# EAGLE library part GHI-CONNECTORS_HDMI-TYPE-D-10118241 (library BeagleBone_Black_Wireless)
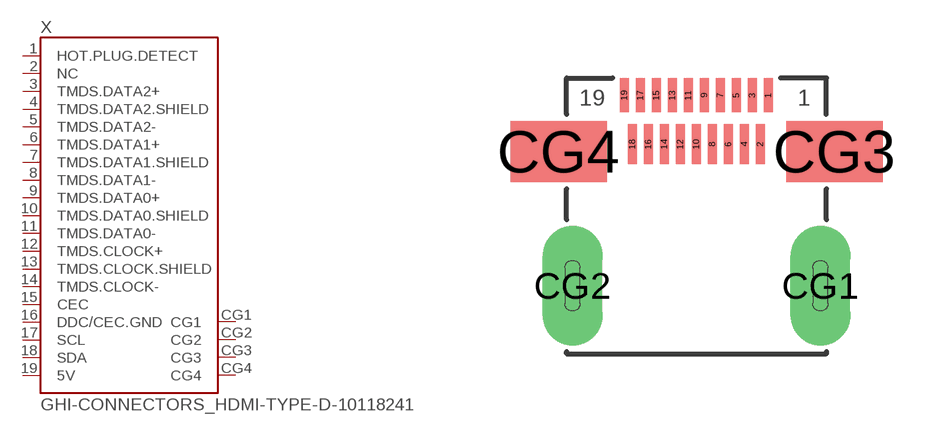
[diagram p6: symbol with the pads of GHI-CONNECTORS_HDMI-TYPE-D-10118241; footprint GHI-CONNECTORS_HDMI-TYPE-D-10118241]

Designator prefix X

## GHI-CONNECTORS_HDMI-TYPE-D-10118241  [GHI-CONNECTORS_HDMI-TYPE-D-10118241]
1  HOT.PLUG.DETECT
2  NC
3  TMDS.DATA2+
4  TMDS.DATA2.SHIELD
5  TMDS.DATA2-
6  TMDS.DATA1+
7  TMDS.DATA1.SHIELD
8  TMDS.DATA1-
9  TMDS.DATA0+
10  TMDS.DATA0.SHIELD
11  TMDS.DATA0-
12  TMDS.CLOCK+
13  TMDS.CLOCK.SHIELD
14  TMDS.CLOCK-
15  CEC
16  DDC/CEC.GND
17  SCL
18  SDA
19  5V
CG1  CG1
CG2  CG2
CG3  CG3
CG4  CG4

## Footprint GHI-CONNECTORS_HDMI-TYPE-D-10118241 (pad centres in mm)
smd 0.23 x 0.85: 1 1.8,4.765; 3 1.4,4.765; 5 1,4.765; 7 0.6,4.765; 9 0.2,4.765; 11 -0.2,4.765; 13 -0.6,4.765; 15 -1,4.765; 17 -1.4,4.765; 19 -1.8,4.765
smd 0.23 x 1: 2 1.6,3.54; 4 1.2,3.54; 6 0.8,3.54; 8 0.4,3.54; 10 0,3.54; 12 -0.4,3.54; 14 -0.8,3.54; 16 -1.2,3.54; 18 -1.6,3.54
drill 0.381 pad 1.5 long: CG1 3.1,0; CG2 -3.1,0
smd 2.413 x 1.524: CG3 3.45,3.36; CG4 -3.45,3.36